# Altium schematic symbol library WCAP-ATG8_16V.SchLib: 6 symbols
Pins are listed as number, name and electrical type; pins without a type are passive.

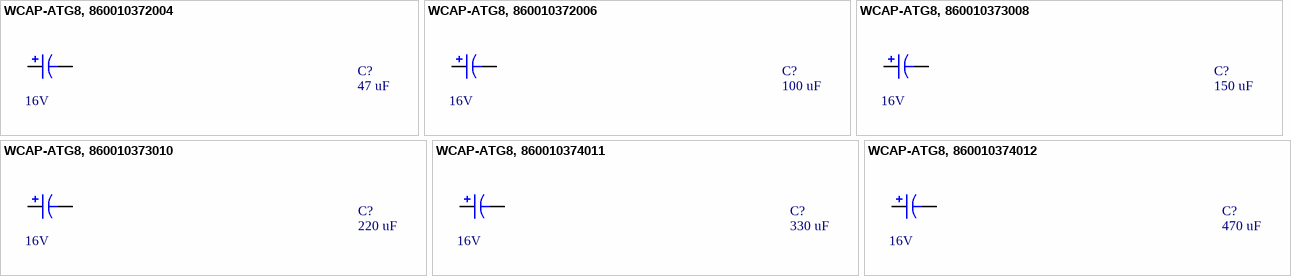
[diagram p0: symbols WCAP-ATG8, 860010372004 to WCAP-ATG8, 860010374012]

## WCAP-ATG8, 860010372004
designator C?, comment 47 uF  RatedVoltage: 16V
CAP Alu 47 UF 20% 16 V; Manufacturer: Wurth Elektronik; Manufacturer Part Number: 860010372004; PublishedDate: July 2016; ComponentLink1Description: Manufacturer; ComponentLink1URL: http://www.we-online.de; ComponentLink2Description: Datasheet; ComponentLink2URL: http://katalog.we-online.de/pbs/datasheet/860010372004.pdf; Value: 47 uF; Size: 5mmx11mm
footprint WCAP-ATG8_5x11x2x0.5
pins: 1, 2

## WCAP-ATG8, 860010372006
designator C?, comment 100 uF  RatedVoltage: 16V
CAP Alu 100 UF 20% 16 V; Manufacturer: Wurth Elektronik; Manufacturer Part Number: 860010372006; PublishedDate: July 2016; ComponentLink1Description: Manufacturer; ComponentLink1URL: http://www.we-online.de; ComponentLink2Description: Datasheet; ComponentLink2URL: http://katalog.we-online.de/pbs/datasheet/860010372006.pdf; Value: 100 uF; Size: 5mmx11mm
footprint WCAP-ATG8_5x11x2x0.5
pins: 1, 2

## WCAP-ATG8, 860010373008
designator C?, comment 150 uF  RatedVoltage: 16V
CAP Alu 150 UF 20% 16 V; Manufacturer: Wurth Elektronik; Manufacturer Part Number: 860010373008; PublishedDate: July 2016; ComponentLink1Description: Manufacturer; ComponentLink1URL: http://www.we-online.de; ComponentLink2Description: Datasheet; ComponentLink2URL: http://katalog.we-online.de/pbs/datasheet/860010373008.pdf; Value: 150 uF; Size: 6.3mmx11mm
footprint WCAP-ATG8_6.3x11x2.5x0.5
pins: 1, 2

## WCAP-ATG8, 860010373010
designator C?, comment 220 uF  RatedVoltage: 16V
CAP Alu 220 UF 20% 16 V; Manufacturer: Wurth Elektronik; Manufacturer Part Number: 860010373010; PublishedDate: July 2016; ComponentLink1Description: Manufacturer; ComponentLink1URL: http://www.we-online.de; ComponentLink2Description: Datasheet; ComponentLink2URL: http://katalog.we-online.de/pbs/datasheet/860010373010.pdf; Value: 220 uF; Size: 6.3mmx11mm
footprint WCAP-ATG8_6.3x11x2.5x0.5
pins: 1, 2

## WCAP-ATG8, 860010374011
designator C?, comment 330 uF  RatedVoltage: 16V
CAP Alu 330 UF 20% 16 V; Manufacturer: Wurth Elektronik; Manufacturer Part Number: 860010374011; PublishedDate: July 2016; ComponentLink1Description: Manufacturer; ComponentLink1URL: http://www.we-online.de; ComponentLink2Description: Datasheet; ComponentLink2URL: http://katalog.we-online.de/pbs/datasheet/860010374011.pdf; Value: 330 uF; Size: 8mmx11.5mm
footprint WCAP-ATG8_8x11.5x3.5x0.5
pins: 1, 2

## WCAP-ATG8, 860010374012
designator C?, comment 470 uF  RatedVoltage: 16V
CAP Alu 470 UF 20% 16 V; Manufacturer: Wurth Elektronik; Manufacturer Part Number: 860010374012; PublishedDate: July 2016; ComponentLink1Description: Manufacturer; ComponentLink1URL: http://www.we-online.de; ComponentLink2Description: Datasheet; ComponentLink2URL: http://katalog.we-online.de/pbs/datasheet/860010374012.pdf; Value: 470 uF; Size: 8mmx11.5mm
footprint WCAP-ATG8_8x11.5x3.5x0.5
pins: 1, 2